# Altium integrated library Altium_WCAP-CSGP (rev22a).IntLib: 953 symbols (part 9 of 17)
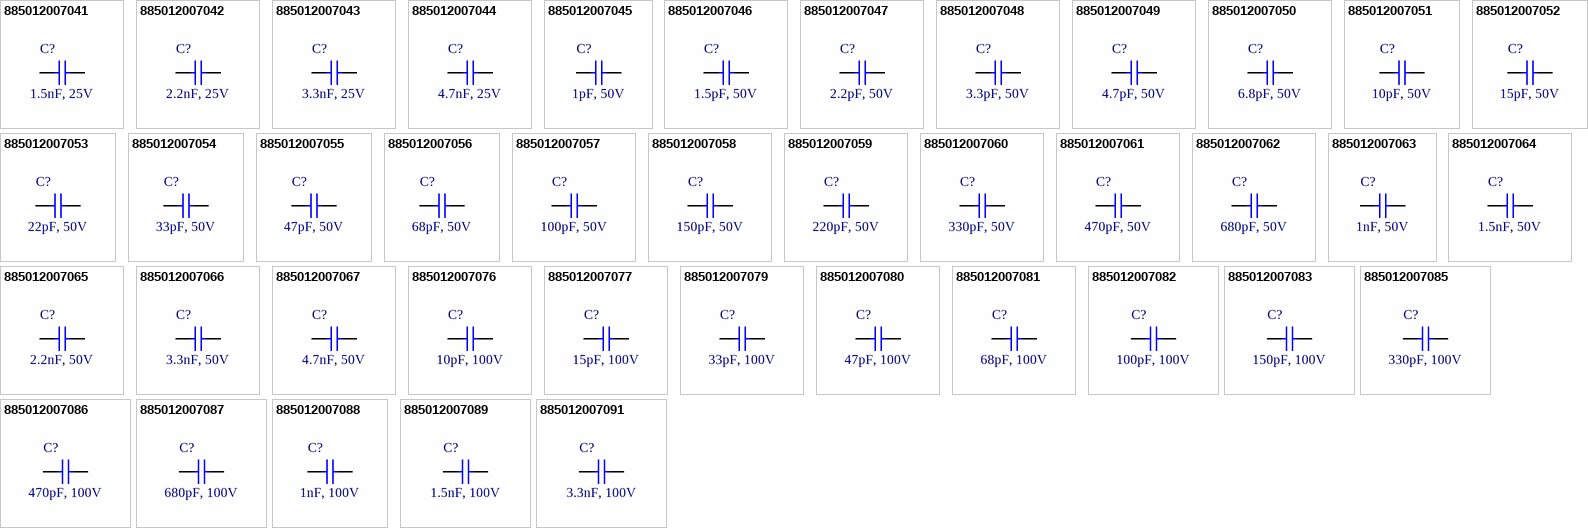
[diagram p35: symbols 885012007041 to 885012007091]

## 885012007088
designator C?, comment 1nF, 100V
WCAP-CSGP Multilayer Ceramic Chip Capacitor, General Purpose, size 0805, NP0, 1nF, 100V; Manufacturer: Wurth Elektronik; Manufacturer Part Number: 885012007088; Capacitance Tolerance: +/-5%; Isolation Resistance: 10GOhm; Q-Factor: 1000; Technical Reference: NP00805102J100DFCT10000; Capacitance: 1nF; Ceramic Type: NP0; ComponentLink1Description: Manufacturer Link; ComponentLink1URL: http://www.we-online.de; ComponentLink2Description: Datasheet; ComponentLink2URL: https://www.we-online.com/catalog/datasheet/885012007088.pdf; Height: 0.8mm; Length: 2mm; Mounting Technology: SMT; Operating Temperature max.: 125C; Operating Temperature min.: -55C; Packaging: Tape and Reel; Rated Voltage: 100V; Size: 0805; Width: 1.25mm
footprint WCAP-CSGP_0805_L2W1.25H0.8_Wave
footprint WCAP-CSGP_0805_L2W1.25H0.8_Reflow
pins: 1, 2

## 885012007089
designator C?, comment 1.5nF, 100V
WCAP-CSGP Multilayer Ceramic Chip Capacitor, General Purpose, size 0805, NP0, 1.5nF, 100V; Manufacturer: Wurth Elektronik; Manufacturer Part Number: 885012007089; Capacitance Tolerance: +/-5%; Isolation Resistance: 10GOhm; Q-Factor: 1000; Technical Reference: NP00805152J100DFCT10000; Capacitance: 1.5nF; Ceramic Type: NP0; ComponentLink1Description: Manufacturer Link; ComponentLink1URL: http://www.we-online.de; ComponentLink2Description: Datasheet; ComponentLink2URL: https://www.we-online.com/catalog/datasheet/885012007089.pdf; Height: 0.8mm; Length: 2mm; Mounting Technology: SMT; Operating Temperature max.: 125C; Operating Temperature min.: -55C; Packaging: Tape and Reel; Rated Voltage: 100V; Size: 0805; Width: 1.25mm
footprint WCAP-CSGP_0805_L2W1.25H0.8_Wave
footprint WCAP-CSGP_0805_L2W1.25H0.8_Reflow
pins: 1, 2

## 885012007091
designator C?, comment 3.3nF, 100V
WCAP-CSGP Multilayer Ceramic Chip Capacitor, General Purpose, size 0805, NP0, 3.3nF, 100V; Manufacturer: Wurth Elektronik; Manufacturer Part Number: 885012007091; Capacitance Tolerance: +/-5%; Isolation Resistance: 10GOhm; Q-Factor: 1000; Technical Reference: NP00805332J100DFCT10000; Capacitance: 3.3nF; Ceramic Type: NP0; ComponentLink1Description: Manufacturer Link; ComponentLink1URL: http://www.we-online.de; ComponentLink2Description: Datasheet; ComponentLink2URL: https://www.we-online.com/catalog/datasheet/885012007091.pdf; Height: 1.25mm; Length: 2mm; Mounting Technology: SMT; Operating Temperature max.: 125C; Operating Temperature min.: -55C; Packaging: Tape and Reel; Rated Voltage: 100V; Size: 0805; Width: 1.25mm
footprint WCAP-CSGP_0805_L2W1.25H1.25
pins: 1, 2

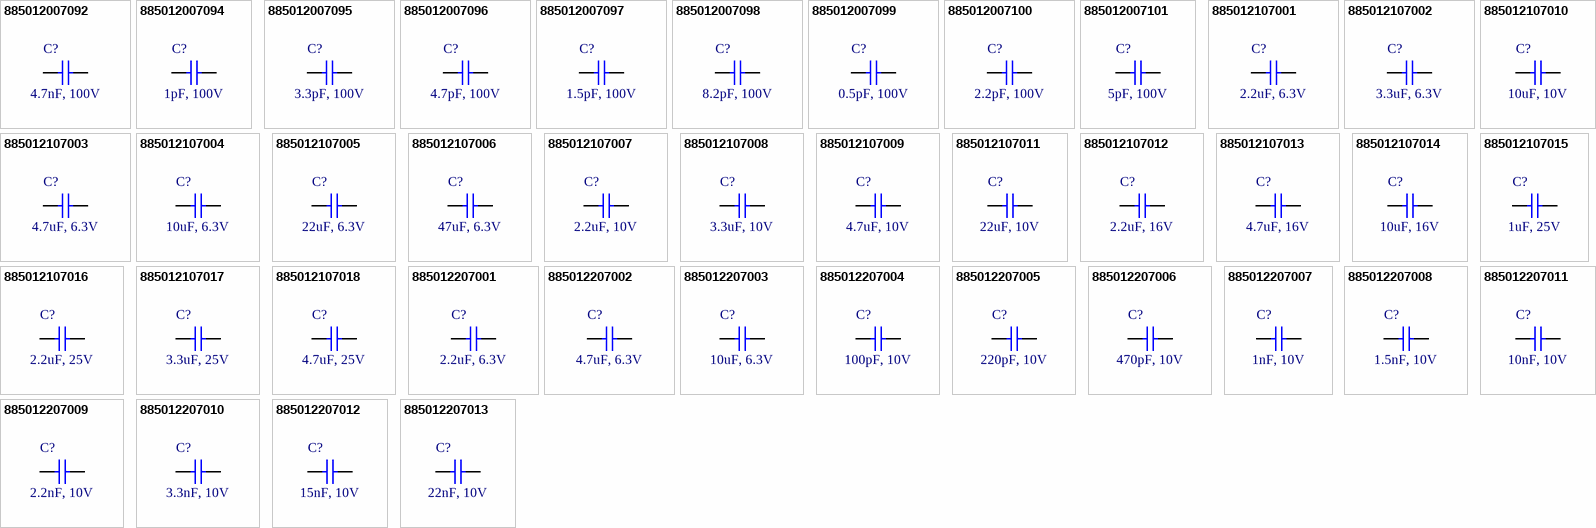
[diagram p13: symbols 885012007092 to 885012207013]

## 885012007092
designator C?, comment 4.7nF, 100V
WCAP-CSGP Multilayer Ceramic Chip Capacitor, General Purpose, size 0805, NP0, 4.7nF, 100V; Manufacturer: Wurth Elektronik; Manufacturer Part Number: 885012007092; Capacitance Tolerance: +/-5%; Isolation Resistance: 10GOhm; Q-Factor: 1000; Technical Reference: NP00805472J100DFCT10000; Capacitance: 4.7nF; Ceramic Type: NP0; ComponentLink1Description: Manufacturer Link; ComponentLink1URL: http://www.we-online.de; ComponentLink2Description: Datasheet; ComponentLink2URL: https://www.we-online.com/catalog/datasheet/885012007092.pdf; Height: 1.25mm; Length: 2mm; Mounting Technology: SMT; Operating Temperature max.: 125C; Operating Temperature min.: -55C; Packaging: Tape and Reel; Rated Voltage: 100V; Size: 0805; Width: 1.25mm
footprint WCAP-CSGP_0805_L2W1.25H1.25
pins: 1, 2

## 885012007094
designator C?, comment 1pF, 100V
WCAP-CSGP Multilayer Ceramic Chip Capacitor, General Purpose, size 0805, NP0, 1pF, 100V; Manufacturer: Wurth Elektronik; Manufacturer Part Number: 885012007094; Capacitance Tolerance: +/-0.25pF; Isolation Resistance: 10GOhm; Q-Factor: 420; Technical Reference: NP008051R0C100DFCT10000; Capacitance: 1pF; Ceramic Type: NP0; ComponentLink1Description: Manufacturer Link; ComponentLink1URL: http://www.we-online.de; ComponentLink2Description: Datasheet; ComponentLink2URL: https://www.we-online.com/catalog/datasheet/885012007094.pdf; Height: 0.6mm; Length: 2mm; Mounting Technology: SMT; Operating Temperature max.: 125C; Operating Temperature min.: -55C; Packaging: Tape and Reel; Rated Voltage: 100V; Size: 0805; Width: 1.25mm
footprint WCAP-CSGP_0805_L2W1.25H0.6_Wave
footprint WCAP-CSGP_0805_L2W1.25H0.6_Reflow
pins: 1, 2

## 885012007095
designator C?, comment 3.3pF, 100V
WCAP-CSGP Multilayer Ceramic Chip Capacitor, General Purpose, size 0805, NP0, 3.3pF, 100V; Manufacturer: Wurth Elektronik; Manufacturer Part Number: 885012007095; Capacitance Tolerance: +/-0.25pF; Isolation Resistance: 10GOhm; Q-Factor: 466; Technical Reference: NP008053R3C100DFCT10000; Capacitance: 3.3pF; Ceramic Type: NP0; ComponentLink1Description: Manufacturer Link; ComponentLink1URL: http://www.we-online.de; ComponentLink2Description: Datasheet; ComponentLink2URL: https://www.we-online.com/catalog/datasheet/885012007095.pdf; Height: 0.6mm; Length: 2mm; Mounting Technology: SMT; Operating Temperature max.: 125C; Operating Temperature min.: -55C; Packaging: Tape and Reel; Rated Voltage: 100V; Size: 0805; Width: 1.25mm
footprint WCAP-CSGP_0805_L2W1.25H0.6_Wave
footprint WCAP-CSGP_0805_L2W1.25H0.6_Reflow
pins: 1, 2

## 885012007096
designator C?, comment 4.7pF, 100V
WCAP-CSGP Multilayer Ceramic Chip Capacitor, General Purpose, size 0805, NP0, 4.7pF, 100V; Manufacturer: Wurth Elektronik; Manufacturer Part Number: 885012007096; Capacitance Tolerance: +/-0.25pF; Isolation Resistance: 10GOhm; Q-Factor: 494; Technical Reference: NP008054R7C100DFCT10000; Capacitance: 4.7pF; Ceramic Type: NP0; ComponentLink1Description: Manufacturer Link; ComponentLink1URL: http://www.we-online.de; ComponentLink2Description: Datasheet; ComponentLink2URL: https://www.we-online.com/catalog/datasheet/885012007096.pdf; Height: 0.6mm; Length: 2mm; Mounting Technology: SMT; Operating Temperature max.: 125C; Operating Temperature min.: -55C; Packaging: Tape and Reel; Rated Voltage: 100V; Size: 0805; Width: 1.25mm
footprint WCAP-CSGP_0805_L2W1.25H0.6_Wave
footprint WCAP-CSGP_0805_L2W1.25H0.6_Reflow
pins: 1, 2

## 885012007097
designator C?, comment 1.5pF, 100V
WCAP-CSGP Multilayer Ceramic Chip Capacitor, General Purpose, size 0805, NP0, 1.5pF, 100V; Manufacturer: Wurth Elektronik; Manufacturer Part Number: 885012007097; Capacitance Tolerance: +/-0.25pF; Isolation Resistance: 10GOhm; Q-Factor: 430; Technical Reference: NP008051R5C100DFCT10000; Capacitance: 1.5pF; Ceramic Type: NP0; ComponentLink1Description: Manufacturer Link; ComponentLink1URL: http://www.we-online.de; ComponentLink2Description: Datasheet; ComponentLink2URL: https://www.we-online.com/catalog/datasheet/885012007097.pdf; Height: 0.6mm; Length: 2mm; Mounting Technology: SMT; Operating Temperature max.: 125C; Operating Temperature min.: -55C; Packaging: Tape and Reel; Rated Voltage: 100V; Size: 0805; Width: 1.25mm
footprint WCAP-CSGP_0805_L2W1.25H0.6_Wave
footprint WCAP-CSGP_0805_L2W1.25H0.6_Reflow
pins: 1, 2

## 885012007098
designator C?, comment 8.2pF, 100V
WCAP-CSGP Multilayer Ceramic Chip Capacitor, General Purpose, size 0805, NP0, 8.2pF, 100V; Manufacturer: Wurth Elektronik; Manufacturer Part Number: 885012007098; Capacitance Tolerance: +/-0.5pF; Isolation Resistance: 10GOhm; Q-Factor: 564; Technical Reference: NP008058R2D100DFCT10000; Capacitance: 8.2pF; Ceramic Type: NP0; ComponentLink1Description: Manufacturer Link; ComponentLink1URL: http://www.we-online.de; ComponentLink2Description: Datasheet; ComponentLink2URL: https://www.we-online.com/catalog/datasheet/885012007098.pdf; Height: 0.6mm; Length: 2mm; Mounting Technology: SMT; Operating Temperature max.: 125C; Operating Temperature min.: -55C; Packaging: Tape and Reel; Rated Voltage: 100V; Size: 0805; Width: 1.25mm
footprint WCAP-CSGP_0805_L2W1.25H0.6_Wave
footprint WCAP-CSGP_0805_L2W1.25H0.6_Reflow
pins: 1, 2

## 885012007099
designator C?, comment 0.5pF, 100V
WCAP-CSGP Multilayer Ceramic Chip Capacitor, General Purpose, size 0805, NP0, 0.5pF, 100V; Manufacturer: Wurth Elektronik; Manufacturer Part Number: 885012007099; Capacitance Tolerance: +/-0.25pF; Isolation Resistance: 10GOhm; Q-Factor: 410; Technical Reference: NP00805R50C100DFCT10000; Capacitance: 0.5pF; Ceramic Type: NP0; ComponentLink1Description: Manufacturer Link; ComponentLink1URL: http://www.we-online.de; ComponentLink2Description: Datasheet; ComponentLink2URL: https://www.we-online.com/catalog/datasheet/885012007099.pdf; Height: 0.6mm; Length: 2mm; Mounting Technology: SMT; Operating Temperature max.: 125C; Operating Temperature min.: -55C; Packaging: Tape and Reel; Rated Voltage: 100V; Size: 0805; Width: 1.25mm
footprint WCAP-CSGP_0805_L2W1.25H0.6_Wave
footprint WCAP-CSGP_0805_L2W1.25H0.6_Reflow
pins: 1, 2

## 885012007100
designator C?, comment 2.2pF, 100V
WCAP-CSGP Multilayer Ceramic Chip Capacitor, General Purpose, size 0805, NP0, 2.2pF, 100V; Manufacturer: Wurth Elektronik; Manufacturer Part Number: 885012007100; Capacitance Tolerance: +/-0.25pF; Isolation Resistance: 10GOhm; Q-Factor: 444; Technical Reference: NP008052R2C100DFCT10000; Capacitance: 2.2pF; Ceramic Type: NP0; ComponentLink1Description: Manufacturer Link; ComponentLink1URL: http://www.we-online.de; ComponentLink2Description: Datasheet; ComponentLink2URL: https://www.we-online.com/catalog/datasheet/885012007100.pdf; Height: 0.6mm; Length: 2mm; Mounting Technology: SMT; Operating Temperature max.: 125C; Operating Temperature min.: -55C; Packaging: Tape and Reel; Rated Voltage: 100V; Size: 0805; Width: 1.25mm
footprint WCAP-CSGP_0805_L2W1.25H0.6_Wave
footprint WCAP-CSGP_0805_L2W1.25H0.6_Reflow
pins: 1, 2

## 885012007101
designator C?, comment 5pF, 100V
WCAP-CSGP Multilayer Ceramic Chip Capacitor, General Purpose, size 0805, NP0, 5pF, 100V; Manufacturer: Wurth Elektronik; Manufacturer Part Number: 885012007101; Capacitance Tolerance: +/-0.25pF; Isolation Resistance: 10GOhm; Q-Factor: 500; Technical Reference: NP008055R0C100DFCT10000; Capacitance: 5pF; Ceramic Type: NP0; ComponentLink1Description: Manufacturer Link; ComponentLink1URL: http://www.we-online.de; ComponentLink2Description: Datasheet; ComponentLink2URL: https://www.we-online.com/catalog/datasheet/885012007101.pdf; Height: 0.6mm; Length: 2mm; Mounting Technology: SMT; Operating Temperature max.: 125C; Operating Temperature min.: -55C; Packaging: Tape and Reel; Rated Voltage: 100V; Size: 0805; Width: 1.25mm
footprint WCAP-CSGP_0805_L2W1.25H0.6_Wave
footprint WCAP-CSGP_0805_L2W1.25H0.6_Reflow
pins: 1, 2

## 885012107001
designator C?, comment 2.2uF, 6.3V
WCAP-CSGP Multilayer Ceramic Chip Capacitor, General Purpose, size 0805, X5R, 2.2uF, 6.3V; Manufacturer: Wurth Elektronik; Manufacturer Part Number: 885012107001; Capacitance Tolerance: +/-20%; Dissipation Factor: 10%; Isolation Resistance: 0.05GOhm; Technical Reference: X5R0805225M6R3DFCT10000; Capacitance: 2.2uF; Ceramic Type: X5R; ComponentLink1Description: Manufacturer Link; ComponentLink1URL: http://www.we-online.de; ComponentLink2Description: Datasheet; ComponentLink2URL: https://www.we-online.com/catalog/datasheet/885012107001.pdf; Height: 1.25mm; Length: 2mm; Mounting Technology: SMT; Operating Temperature max.: 85C; Operating Temperature min.: -55C; Packaging: Tape and Reel; Rated Voltage: 6.3V; Size: 0805; Width: 1.25mm
footprint WCAP-CSGP_0805_L2W1.25H1.25
pins: 1, 2

## 885012107002
designator C?, comment 3.3uF, 6.3V
WCAP-CSGP Multilayer Ceramic Chip Capacitor, General Purpose, size 0805, X5R, 3.3uF, 6.3V; Manufacturer: Wurth Elektronik; Manufacturer Part Number: 885012107002; Capacitance Tolerance: +/-20%; Dissipation Factor: 10%; Isolation Resistance: 0.03GOhm; Technical Reference: X5R0805335M6R3DFCT10000; Capacitance: 3.3uF; Ceramic Type: X5R; ComponentLink1Description: Manufacturer Link; ComponentLink1URL: http://www.we-online.de; ComponentLink2Description: Datasheet; ComponentLink2URL: https://www.we-online.com/catalog/datasheet/885012107002.pdf; Height: 1.25mm; Length: 2mm; Mounting Technology: SMT; Operating Temperature max.: 85C; Operating Temperature min.: -55C; Packaging: Tape and Reel; Rated Voltage: 6.3V; Size: 0805; Width: 1.25mm
footprint WCAP-CSGP_0805_L2W1.25H1.25
pins: 1, 2

## 885012107003
designator C?, comment 4.7uF, 6.3V
WCAP-CSGP Multilayer Ceramic Chip Capacitor, General Purpose, size 0805, X5R, 4.7uF, 6.3V; Manufacturer: Wurth Elektronik; Manufacturer Part Number: 885012107003; Capacitance Tolerance: +/-20%; Dissipation Factor: 15%; Isolation Resistance: 0.02GOhm; Technical Reference: X5R0805475M6R3DFCT10000; Capacitance: 4.7uF; Ceramic Type: X5R; ComponentLink1Description: Manufacturer Link; ComponentLink1URL: http://www.we-online.de; ComponentLink2Description: Datasheet; ComponentLink2URL: https://www.we-online.com/catalog/datasheet/885012107003.pdf; Height: 1.25mm; Length: 2mm; Mounting Technology: SMT; Operating Temperature max.: 85C; Operating Temperature min.: -55C; Packaging: Tape and Reel; Rated Voltage: 6.3V; Size: 0805; Width: 1.25mm
footprint WCAP-CSGP_0805_L2W1.25H1.25
pins: 1, 2

## 885012107004
designator C?, comment 10uF, 6.3V
WCAP-CSGP Multilayer Ceramic Chip Capacitor, General Purpose, size 0805, X5R, 10uF, 6.3V; Manufacturer: Wurth Elektronik; Manufacturer Part Number: 885012107004; Capacitance Tolerance: +/-20%; Dissipation Factor: 15%; Isolation Resistance: 0.01GOhm; Technical Reference: X5R0805106M6R3DFCT10000; Capacitance: 10uF; Ceramic Type: X5R; ComponentLink1Description: Manufacturer Link; ComponentLink1URL: http://www.we-online.de; ComponentLink2Description: Datasheet; ComponentLink2URL: https://www.we-online.com/catalog/datasheet/885012107004.pdf; Height: 1.25mm; Length: 2mm; Mounting Technology: SMT; Operating Temperature max.: 85C; Operating Temperature min.: -55C; Packaging: Tape and Reel; Rated Voltage: 6.3V; Size: 0805; Width: 1.25mm
footprint WCAP-CSGP_0805_L2W1.25H1.25
pins: 1, 2

## 885012107005
designator C?, comment 22uF, 6.3V
WCAP-CSGP Multilayer Ceramic Chip Capacitor, General Purpose, size 0805, X5R, 22uF, 6.3V; Manufacturer: Wurth Elektronik; Manufacturer Part Number: 885012107005; Capacitance Tolerance: +/-20%; Dissipation Factor: 10%; Isolation Resistance: 0.005GOhm; Technical Reference: X5R0805226M6R3DFCT10000; Capacitance: 22uF; Ceramic Type: X5R; ComponentLink1Description: Manufacturer Link; ComponentLink1URL: http://www.we-online.de; ComponentLink2Description: Datasheet; ComponentLink2URL: https://www.we-online.com/catalog/datasheet/885012107005.pdf; Height: 1.25mm; Length: 2mm; Mounting Technology: SMT; Operating Temperature max.: 85C; Operating Temperature min.: -55C; Packaging: Tape and Reel; Rated Voltage: 6.3V; Size: 0805; Width: 1.25mm
footprint WCAP-CSGP_0805_L2W1.25H1.25
pins: 1, 2

## 885012107006
designator C?, comment 47uF, 6.3V
WCAP-CSGP Multilayer Ceramic Chip Capacitor, General Purpose, size 0805, X5R, 47uF, 6.3V; Manufacturer: Wurth Elektronik; Manufacturer Part Number: 885012107006; Capacitance Tolerance: +/-20%; Dissipation Factor: 10%; Isolation Resistance: 0.002GOhm; Technical Reference: X5R0805476M6R3DFCT10000; Capacitance: 47uF; Ceramic Type: X5R; ComponentLink1Description: Manufacturer Link; ComponentLink1URL: http://www.we-online.de; ComponentLink2Description: Datasheet; ComponentLink2URL: https://www.we-online.com/catalog/datasheet/885012107006.pdf; Height: 1.25mm; Length: 2mm; Mounting Technology: SMT; Operating Temperature max.: 85C; Operating Temperature min.: -55C; Packaging: Tape and Reel; Rated Voltage: 6.3V; Size: 0805; Width: 1.25mm
footprint WCAP-CSGP_0805_L2W1.25H1.25
pins: 1, 2

## 885012107007
designator C?, comment 2.2uF, 10V
WCAP-CSGP Multilayer Ceramic Chip Capacitor, General Purpose, size 0805, X5R, 2.2uF, 10V; Manufacturer: Wurth Elektronik; Manufacturer Part Number: 885012107007; Capacitance Tolerance: +/-20%; Dissipation Factor: 10%; Isolation Resistance: 0.05GOhm; Technical Reference: X5R0805225M010DFCT10000; Capacitance: 2.2uF; Ceramic Type: X5R; ComponentLink1Description: Manufacturer Link; ComponentLink1URL: http://www.we-online.de; ComponentLink2Description: Datasheet; ComponentLink2URL: https://www.we-online.com/catalog/datasheet/885012107007.pdf; Height: 1.25mm; Length: 2mm; Mounting Technology: SMT; Operating Temperature max.: 85C; Operating Temperature min.: -55C; Packaging: Tape and Reel; Rated Voltage: 10V; Size: 0805; Width: 1.25mm
footprint WCAP-CSGP_0805_L2W1.25H1.25
pins: 1, 2

## 885012107008
designator C?, comment 3.3uF, 10V
WCAP-CSGP Multilayer Ceramic Chip Capacitor, General Purpose, size 0805, X5R, 3.3uF, 10V; Manufacturer: Wurth Elektronik; Manufacturer Part Number: 885012107008; Capacitance Tolerance: +/-20%; Dissipation Factor: 10%; Isolation Resistance: 0.03GOhm; Technical Reference: X5R0805335M010DFCT10000; Capacitance: 3.3uF; Ceramic Type: X5R; ComponentLink1Description: Manufacturer Link; ComponentLink1URL: http://www.we-online.de; ComponentLink2Description: Datasheet; ComponentLink2URL: https://www.we-online.com/catalog/datasheet/885012107008.pdf; Height: 1.25mm; Length: 2mm; Mounting Technology: SMT; Operating Temperature max.: 85C; Operating Temperature min.: -55C; Packaging: Tape and Reel; Rated Voltage: 10V; Size: 0805; Width: 1.25mm
footprint WCAP-CSGP_0805_L2W1.25H1.25
pins: 1, 2

## 885012107009
designator C?, comment 4.7uF, 10V
WCAP-CSGP Multilayer Ceramic Chip Capacitor, General Purpose, size 0805, X5R, 4.7uF, 10V; Manufacturer: Wurth Elektronik; Manufacturer Part Number: 885012107009; Capacitance Tolerance: +/-20%; Dissipation Factor: 10%; Isolation Resistance: 0.02GOhm; Technical Reference: X5R0805475M010DFCT10000; Capacitance: 4.7uF; Ceramic Type: X5R; ComponentLink1Description: Manufacturer Link; ComponentLink1URL: http://www.we-online.de; ComponentLink2Description: Datasheet; ComponentLink2URL: https://www.we-online.com/catalog/datasheet/885012107009.pdf; Height: 1.25mm; Length: 2mm; Mounting Technology: SMT; Operating Temperature max.: 85C; Operating Temperature min.: -55C; Packaging: Tape and Reel; Rated Voltage: 10V; Size: 0805; Width: 1.25mm
footprint WCAP-CSGP_0805_L2W1.25H1.25
pins: 1, 2

## 885012107010
designator C?, comment 10uF, 10V
WCAP-CSGP Multilayer Ceramic Chip Capacitor, General Purpose, size 0805, X5R, 10uF, 10V; Manufacturer: Wurth Elektronik; Manufacturer Part Number: 885012107010; Capacitance Tolerance: +/-20%; Dissipation Factor: 10%; Isolation Resistance: 0.01GOhm; Technical Reference: X5R0805106M010DFCT10000; Capacitance: 10uF; Ceramic Type: X5R; ComponentLink1Description: Manufacturer Link; ComponentLink1URL: http://www.we-online.de; ComponentLink2Description: Datasheet; ComponentLink2URL: https://www.we-online.com/catalog/datasheet/885012107010.pdf; Height: 1.25mm; Length: 2mm; Mounting Technology: SMT; Operating Temperature max.: 85C; Operating Temperature min.: -55C; Packaging: Tape and Reel; Rated Voltage: 10V; Size: 0805; Width: 1.25mm
footprint WCAP-CSGP_0805_L2W1.25H1.25
pins: 1, 2

## 885012107011
designator C?, comment 22uF, 10V
WCAP-CSGP Multilayer Ceramic Chip Capacitor, General Purpose, size 0805, X5R, 22uF, 10V; Manufacturer: Wurth Elektronik; Manufacturer Part Number: 885012107011; Capacitance Tolerance: +/-20%; Dissipation Factor: 10%; Isolation Resistance: 0.005GOhm; Technical Reference: X5R0805226M010DFCT10000; Capacitance: 22uF; Ceramic Type: X5R; ComponentLink1Description: Manufacturer Link; ComponentLink1URL: http://www.we-online.de; ComponentLink2Description: Datasheet; ComponentLink2URL: https://www.we-online.com/catalog/datasheet/885012107011.pdf; Height: 1.25mm; Length: 2mm; Mounting Technology: SMT; Operating Temperature max.: 85C; Operating Temperature min.: -55C; Packaging: Tape and Reel; Rated Voltage: 10V; Size: 0805; Width: 1.25mm
footprint WCAP-CSGP_0805_L2W1.25H1.25
pins: 1, 2

## 885012107012
designator C?, comment 2.2uF, 16V
WCAP-CSGP Multilayer Ceramic Chip Capacitor, General Purpose, size 0805, X5R, 2.2uF, 16V; Manufacturer: Wurth Elektronik; Manufacturer Part Number: 885012107012; Capacitance Tolerance: +/-20%; Dissipation Factor: 10%; Isolation Resistance: 0.05GOhm; Technical Reference: X5R0805225M016DFCT10000; Capacitance: 2.2uF; Ceramic Type: X5R; ComponentLink1Description: Manufacturer Link; ComponentLink1URL: http://www.we-online.de; ComponentLink2Description: Datasheet; ComponentLink2URL: https://www.we-online.com/catalog/datasheet/885012107012.pdf; Height: 1.25mm; Length: 2mm; Mounting Technology: SMT; Operating Temperature max.: 85C; Operating Temperature min.: -55C; Packaging: Tape and Reel; Rated Voltage: 16V; Size: 0805; Width: 1.25mm
footprint WCAP-CSGP_0805_L2W1.25H1.25
pins: 1, 2

## 885012107013
designator C?, comment 4.7uF, 16V
WCAP-CSGP Multilayer Ceramic Chip Capacitor, General Purpose, size 0805, X5R, 4.7uF, 16V; Manufacturer: Wurth Elektronik; Manufacturer Part Number: 885012107013; Capacitance Tolerance: +/-20%; Dissipation Factor: 10%; Isolation Resistance: 0.02GOhm; Technical Reference: X5R0805475M016DFCT10000; Capacitance: 4.7uF; Ceramic Type: X5R; ComponentLink1Description: Manufacturer Link; ComponentLink1URL: http://www.we-online.de; ComponentLink2Description: Datasheet; ComponentLink2URL: https://www.we-online.com/catalog/datasheet/885012107013.pdf; Height: 1.25mm; Length: 2mm; Mounting Technology: SMT; Operating Temperature max.: 85C; Operating Temperature min.: -55C; Packaging: Tape and Reel; Rated Voltage: 16V; Size: 0805; Width: 1.25mm
footprint WCAP-CSGP_0805_L2W1.25H1.25
pins: 1, 2

## 885012107014
designator C?, comment 10uF, 16V
WCAP-CSGP Multilayer Ceramic Chip Capacitor, General Purpose, size 0805, X5R, 10uF, 16V; Manufacturer: Wurth Elektronik; Manufacturer Part Number: 885012107014; Capacitance Tolerance: +/-20%; Dissipation Factor: 10%; Isolation Resistance: 0.01GOhm; Technical Reference: X5R0805106M016DFCT10000; Capacitance: 10uF; Ceramic Type: X5R; ComponentLink1Description: Manufacturer Link; ComponentLink1URL: http://www.we-online.de; ComponentLink2Description: Datasheet; ComponentLink2URL: https://www.we-online.com/catalog/datasheet/885012107014.pdf; Height: 1.25mm; Length: 2mm; Mounting Technology: SMT; Operating Temperature max.: 85C; Operating Temperature min.: -55C; Packaging: Tape and Reel; Rated Voltage: 16V; Size: 0805; Width: 1.25mm
footprint WCAP-CSGP_0805_L2W1.25H1.25
pins: 1, 2

## 885012107015
designator C?, comment 1uF, 25V
WCAP-CSGP Multilayer Ceramic Chip Capacitor, General Purpose, size 0805, X5R, 1uF, 25V; Manufacturer: Wurth Elektronik; Manufacturer Part Number: 885012107015; Capacitance Tolerance: +/-20%; Dissipation Factor: 5%; Isolation Resistance: 0.5GOhm; Technical Reference: X5R0805105M025DFCT10000; Capacitance: 1uF; Ceramic Type: X5R; ComponentLink1Description: Manufacturer Link; ComponentLink1URL: http://www.we-online.de; ComponentLink2Description: Datasheet; ComponentLink2URL: https://www.we-online.com/catalog/datasheet/885012107015.pdf; Height: 1.25mm; Length: 2mm; Mounting Technology: SMT; Operating Temperature max.: 85C; Operating Temperature min.: -55C; Packaging: Tape and Reel; Rated Voltage: 25V; Size: 0805; Width: 1.25mm
footprint WCAP-CSGP_0805_L2W1.25H1.25
pins: 1, 2

## 885012107016
designator C?, comment 2.2uF, 25V
WCAP-CSGP Multilayer Ceramic Chip Capacitor, General Purpose, size 0805, X5R, 2.2uF, 25V; Manufacturer: Wurth Elektronik; Manufacturer Part Number: 885012107016; Capacitance Tolerance: +/-20%; Dissipation Factor: 10%; Isolation Resistance: 0.05GOhm; Technical Reference: X5R0805225M025DFCT10000; Capacitance: 2.2uF; Ceramic Type: X5R; ComponentLink1Description: Manufacturer Link; ComponentLink1URL: http://www.we-online.de; ComponentLink2Description: Datasheet; ComponentLink2URL: https://www.we-online.com/catalog/datasheet/885012107016.pdf; Height: 1.25mm; Length: 2mm; Mounting Technology: SMT; Operating Temperature max.: 85C; Operating Temperature min.: -55C; Packaging: Tape and Reel; Rated Voltage: 25V; Size: 0805; Width: 1.25mm
footprint WCAP-CSGP_0805_L2W1.25H1.25
pins: 1, 2

## 885012107017
designator C?, comment 3.3uF, 25V
WCAP-CSGP Multilayer Ceramic Chip Capacitor, General Purpose, size 0805, X5R, 3.3uF, 25V; Manufacturer: Wurth Elektronik; Manufacturer Part Number: 885012107017; Capacitance Tolerance: +/-20%; Dissipation Factor: 10%; Isolation Resistance: 0.03GOhm; Technical Reference: X5R0805335M025DFCT10000; Capacitance: 3.3uF; Ceramic Type: X5R; ComponentLink1Description: Manufacturer Link; ComponentLink1URL: http://www.we-online.de; ComponentLink2Description: Datasheet; ComponentLink2URL: https://www.we-online.com/catalog/datasheet/885012107017.pdf; Height: 1.25mm; Length: 2mm; Mounting Technology: SMT; Operating Temperature max.: 85C; Operating Temperature min.: -55C; Packaging: Tape and Reel; Rated Voltage: 25V; Size: 0805; Width: 1.25mm
footprint WCAP-CSGP_0805_L2W1.25H1.25
pins: 1, 2

## 885012107018
designator C?, comment 4.7uF, 25V
WCAP-CSGP Multilayer Ceramic Chip Capacitor, General Purpose, size 0805, X5R, 4.7uF, 25V; Manufacturer: Wurth Elektronik; Manufacturer Part Number: 885012107018; Capacitance Tolerance: +/-20%; Dissipation Factor: 10%; Isolation Resistance: 0.02GOhm; Technical Reference: X5R0805475M025DFCT10000; Capacitance: 4.7uF; Ceramic Type: X5R; ComponentLink1Description: Manufacturer Link; ComponentLink1URL: http://www.we-online.de; ComponentLink2Description: Datasheet; ComponentLink2URL: https://www.we-online.com/catalog/datasheet/885012107018.pdf; Height: 1.25mm; Length: 2mm; Mounting Technology: SMT; Operating Temperature max.: 85C; Operating Temperature min.: -55C; Packaging: Tape and Reel; Rated Voltage: 25V; Size: 0805; Width: 1.25mm
footprint WCAP-CSGP_0805_L2W1.25H1.25
pins: 1, 2

## 885012207001
designator C?, comment 2.2uF, 6.3V
WCAP-CSGP Multilayer Ceramic Chip Capacitor, General Purpose, size 0805, X7R, 2.2uF, 6.3V; Manufacturer: Wurth Elektronik; Manufacturer Part Number: 885012207001; Capacitance Tolerance: +/-10%; Dissipation Factor: 10%; Isolation Resistance: 0.05GOhm; Technical Reference: X7R0805225K6R3DFCT10000; Capacitance: 2.2uF; Ceramic Type: X7R; ComponentLink1Description: Manufacturer Link; ComponentLink1URL: http://www.we-online.de; ComponentLink2Description: Datasheet; ComponentLink2URL: https://www.we-online.com/catalog/datasheet/885012207001.pdf; Height: 1.25mm; Length: 2mm; Mounting Technology: SMT; Operating Temperature max.: 125C; Operating Temperature min.: -55C; Packaging: Tape and Reel; Rated Voltage: 6.3V; Size: 0805; Width: 1.25mm
footprint WCAP-CSGP_0805_L2W1.25H1.25
pins: 1, 2

## 885012207002
designator C?, comment 4.7uF, 6.3V
WCAP-CSGP Multilayer Ceramic Chip Capacitor, General Purpose, size 0805, X7R, 4.7uF, 6.3V; Manufacturer: Wurth Elektronik; Manufacturer Part Number: 885012207002; Capacitance Tolerance: +/-10%; Dissipation Factor: 10%; Isolation Resistance: 0.02GOhm; Technical Reference: X7R0805475K6R3DFCT10000; Capacitance: 4.7uF; Ceramic Type: X7R; ComponentLink1Description: Manufacturer Link; ComponentLink1URL: http://www.we-online.de; ComponentLink2Description: Datasheet; ComponentLink2URL: https://www.we-online.com/catalog/datasheet/885012207002.pdf; Height: 1.25mm; Length: 2mm; Mounting Technology: SMT; Operating Temperature max.: 125C; Operating Temperature min.: -55C; Packaging: Tape and Reel; Rated Voltage: 6.3V; Size: 0805; Width: 1.25mm
footprint WCAP-CSGP_0805_L2W1.25H1.25
pins: 1, 2

## 885012207003
designator C?, comment 10uF, 6.3V
WCAP-CSGP Multilayer Ceramic Chip Capacitor, General Purpose, size 0805, X7R, 10uF, 6.3V; Manufacturer: Wurth Elektronik; Manufacturer Part Number: 885012207003; Capacitance Tolerance: +/-10%; Dissipation Factor: 10%; Isolation Resistance: 0.01GOhm; Technical Reference: X7R0805106K6R3DFCT10000; Capacitance: 10uF; Ceramic Type: X7R; ComponentLink1Description: Manufacturer Link; ComponentLink1URL: http://www.we-online.de; ComponentLink2Description: Datasheet; ComponentLink2URL: https://www.we-online.com/catalog/datasheet/885012207003.pdf; Height: 1.25mm; Length: 2mm; Mounting Technology: SMT; Operating Temperature max.: 125C; Operating Temperature min.: -55C; Packaging: Tape and Reel; Rated Voltage: 6.3V; Size: 0805; Width: 1.25mm
footprint WCAP-CSGP_0805_L2W1.25H1.25
pins: 1, 2

## 885012207004
designator C?, comment 100pF, 10V
WCAP-CSGP Multilayer Ceramic Chip Capacitor, General Purpose, size 0805, X7R, 100pF, 10V; Manufacturer: Wurth Elektronik; Manufacturer Part Number: 885012207004; Capacitance Tolerance: +/-10%; Dissipation Factor: 5%; Isolation Resistance: 10GOhm; Technical Reference: X7R0805101K010DFCT10000; Capacitance: 100pF; Ceramic Type: X7R; ComponentLink1Description: Manufacturer Link; ComponentLink1URL: http://www.we-online.de; ComponentLink2Description: Datasheet; ComponentLink2URL: https://www.we-online.com/catalog/datasheet/885012207004.pdf; Height: 0.8mm; Length: 2mm; Mounting Technology: SMT; Operating Temperature max.: 125C; Operating Temperature min.: -55C; Packaging: Tape and Reel; Rated Voltage: 10V; Size: 0805; Width: 1.25mm
footprint WCAP-CSGP_0805_L2W1.25H0.8_Wave
footprint WCAP-CSGP_0805_L2W1.25H0.8_Reflow
pins: 1, 2

## 885012207005
designator C?, comment 220pF, 10V
WCAP-CSGP Multilayer Ceramic Chip Capacitor, General Purpose, size 0805, X7R, 220pF, 10V; Manufacturer: Wurth Elektronik; Manufacturer Part Number: 885012207005; Capacitance Tolerance: +/-10%; Dissipation Factor: 5%; Isolation Resistance: 10GOhm; Technical Reference: X7R0805221K010DFCT10000; Capacitance: 220pF; Ceramic Type: X7R; ComponentLink1Description: Manufacturer Link; ComponentLink1URL: http://www.we-online.de; ComponentLink2Description: Datasheet; ComponentLink2URL: https://www.we-online.com/catalog/datasheet/885012207005.pdf; Height: 0.8mm; Length: 2mm; Mounting Technology: SMT; Operating Temperature max.: 125C; Operating Temperature min.: -55C; Packaging: Tape and Reel; Rated Voltage: 10V; Size: 0805; Width: 1.25mm
footprint WCAP-CSGP_0805_L2W1.25H0.8_Wave
footprint WCAP-CSGP_0805_L2W1.25H0.8_Reflow
pins: 1, 2

## 885012207006
designator C?, comment 470pF, 10V
WCAP-CSGP Multilayer Ceramic Chip Capacitor, General Purpose, size 0805, X7R, 470pF, 10V; Manufacturer: Wurth Elektronik; Manufacturer Part Number: 885012207006; Capacitance Tolerance: +/-10%; Dissipation Factor: 5%; Isolation Resistance: 10GOhm; Technical Reference: X7R0805471K010DFCT10000; Capacitance: 470pF; Ceramic Type: X7R; ComponentLink1Description: Manufacturer Link; ComponentLink1URL: http://www.we-online.de; ComponentLink2Description: Datasheet; ComponentLink2URL: https://www.we-online.com/catalog/datasheet/885012207006.pdf; Height: 0.8mm; Length: 2mm; Mounting Technology: SMT; Operating Temperature max.: 125C; Operating Temperature min.: -55C; Packaging: Tape and Reel; Rated Voltage: 10V; Size: 0805; Width: 1.25mm
footprint WCAP-CSGP_0805_L2W1.25H0.8_Wave
footprint WCAP-CSGP_0805_L2W1.25H0.8_Reflow
pins: 1, 2

## 885012207007
designator C?, comment 1nF, 10V
WCAP-CSGP Multilayer Ceramic Chip Capacitor, General Purpose, size 0805, X7R, 1nF, 10V; Manufacturer: Wurth Elektronik; Manufacturer Part Number: 885012207007; Capacitance Tolerance: +/-10%; Dissipation Factor: 5%; Isolation Resistance: 10GOhm; Technical Reference: X7R0805102K010DFCT10000; Capacitance: 1nF; Ceramic Type: X7R; ComponentLink1Description: Manufacturer Link; ComponentLink1URL: http://www.we-online.de; ComponentLink2Description: Datasheet; ComponentLink2URL: https://www.we-online.com/catalog/datasheet/885012207007.pdf; Height: 0.8mm; Length: 2mm; Mounting Technology: SMT; Operating Temperature max.: 125C; Operating Temperature min.: -55C; Packaging: Tape and Reel; Rated Voltage: 10V; Size: 0805; Width: 1.25mm
footprint WCAP-CSGP_0805_L2W1.25H0.8_Wave
footprint WCAP-CSGP_0805_L2W1.25H0.8_Reflow
pins: 1, 2

## 885012207008
designator C?, comment 1.5nF, 10V
WCAP-CSGP Multilayer Ceramic Chip Capacitor, General Purpose, size 0805, X7R, 1.5nF, 10V; Manufacturer: Wurth Elektronik; Manufacturer Part Number: 885012207008; Capacitance Tolerance: +/-10%; Dissipation Factor: 5%; Isolation Resistance: 10GOhm; Technical Reference: X7R0805152K010DFCT10000; Capacitance: 1.5nF; Ceramic Type: X7R; ComponentLink1Description: Manufacturer Link; ComponentLink1URL: http://www.we-online.de; ComponentLink2Description: Datasheet; ComponentLink2URL: https://www.we-online.com/catalog/datasheet/885012207008.pdf; Height: 0.8mm; Length: 2mm; Mounting Technology: SMT; Operating Temperature max.: 125C; Operating Temperature min.: -55C; Packaging: Tape and Reel; Rated Voltage: 10V; Size: 0805; Width: 1.25mm
footprint WCAP-CSGP_0805_L2W1.25H0.8_Wave
footprint WCAP-CSGP_0805_L2W1.25H0.8_Reflow
pins: 1, 2

## 885012207009
designator C?, comment 2.2nF, 10V
WCAP-CSGP Multilayer Ceramic Chip Capacitor, General Purpose, size 0805, X7R, 2.2nF, 10V; Manufacturer: Wurth Elektronik; Manufacturer Part Number: 885012207009; Capacitance Tolerance: +/-10%; Dissipation Factor: 5%; Isolation Resistance: 10GOhm; Technical Reference: X7R0805222K010DFCT10000; Capacitance: 2.2nF; Ceramic Type: X7R; ComponentLink1Description: Manufacturer Link; ComponentLink1URL: http://www.we-online.de; ComponentLink2Description: Datasheet; ComponentLink2URL: https://www.we-online.com/catalog/datasheet/885012207009.pdf; Height: 0.8mm; Length: 2mm; Mounting Technology: SMT; Operating Temperature max.: 125C; Operating Temperature min.: -55C; Packaging: Tape and Reel; Rated Voltage: 10V; Size: 0805; Width: 1.25mm
footprint WCAP-CSGP_0805_L2W1.25H0.8_Wave
footprint WCAP-CSGP_0805_L2W1.25H0.8_Reflow
pins: 1, 2

## 885012207010
designator C?, comment 3.3nF, 10V
WCAP-CSGP Multilayer Ceramic Chip Capacitor, General Purpose, size 0805, X7R, 3.3nF, 10V; Manufacturer: Wurth Elektronik; Manufacturer Part Number: 885012207010; Capacitance Tolerance: +/-10%; Dissipation Factor: 5%; Isolation Resistance: 10GOhm; Technical Reference: X7R0805332K010DFCT10000; Capacitance: 3.3nF; Ceramic Type: X7R; ComponentLink1Description: Manufacturer Link; ComponentLink1URL: http://www.we-online.de; ComponentLink2Description: Datasheet; ComponentLink2URL: https://www.we-online.com/catalog/datasheet/885012207010.pdf; Height: 0.8mm; Length: 2mm; Mounting Technology: SMT; Operating Temperature max.: 125C; Operating Temperature min.: -55C; Packaging: Tape and Reel; Rated Voltage: 10V; Size: 0805; Width: 1.25mm
footprint WCAP-CSGP_0805_L2W1.25H0.8_Wave
footprint WCAP-CSGP_0805_L2W1.25H0.8_Reflow
pins: 1, 2

## 885012207011
designator C?, comment 10nF, 10V
WCAP-CSGP Multilayer Ceramic Chip Capacitor, General Purpose, size 0805, X7R, 10nF, 10V; Manufacturer: Wurth Elektronik; Manufacturer Part Number: 885012207011; Capacitance Tolerance: +/-10%; Dissipation Factor: 5%; Isolation Resistance: 10GOhm; Technical Reference: X7R0805103K010DFCT10000; Capacitance: 10nF; Ceramic Type: X7R; ComponentLink1Description: Manufacturer Link; ComponentLink1URL: http://www.we-online.de; ComponentLink2Description: Datasheet; ComponentLink2URL: https://www.we-online.com/catalog/datasheet/885012207011.pdf; Height: 0.8mm; Length: 2mm; Mounting Technology: SMT; Operating Temperature max.: 125C; Operating Temperature min.: -55C; Packaging: Tape and Reel; Rated Voltage: 10V; Size: 0805; Width: 1.25mm
footprint WCAP-CSGP_0805_L2W1.25H0.8_Wave
footprint WCAP-CSGP_0805_L2W1.25H0.8_Reflow
pins: 1, 2

## 885012207012
designator C?, comment 15nF, 10V
WCAP-CSGP Multilayer Ceramic Chip Capacitor, General Purpose, size 0805, X7R, 15nF, 10V; Manufacturer: Wurth Elektronik; Manufacturer Part Number: 885012207012; Capacitance Tolerance: +/-10%; Dissipation Factor: 5%; Isolation Resistance: 10GOhm; Technical Reference: X7R0805153K010DFCT10000; Capacitance: 15nF; Ceramic Type: X7R; ComponentLink1Description: Manufacturer Link; ComponentLink1URL: http://www.we-online.de; ComponentLink2Description: Datasheet; ComponentLink2URL: https://www.we-online.com/catalog/datasheet/885012207012.pdf; Height: 0.8mm; Length: 2mm; Mounting Technology: SMT; Operating Temperature max.: 125C; Operating Temperature min.: -55C; Packaging: Tape and Reel; Rated Voltage: 10V; Size: 0805; Width: 1.25mm
footprint WCAP-CSGP_0805_L2W1.25H0.8_Wave
footprint WCAP-CSGP_0805_L2W1.25H0.8_Reflow
pins: 1, 2

## 885012207013
designator C?, comment 22nF, 10V
WCAP-CSGP Multilayer Ceramic Chip Capacitor, General Purpose, size 0805, X7R, 22nF, 10V; Manufacturer: Wurth Elektronik; Manufacturer Part Number: 885012207013; Capacitance Tolerance: +/-10%; Dissipation Factor: 5%; Isolation Resistance: 10GOhm; Technical Reference: X7R0805223K010DFCT10000; Capacitance: 22nF; Ceramic Type: X7R; ComponentLink1Description: Manufacturer Link; ComponentLink1URL: http://www.we-online.de; ComponentLink2Description: Datasheet; ComponentLink2URL: https://www.we-online.com/catalog/datasheet/885012207013.pdf; Height: 0.8mm; Length: 2mm; Mounting Technology: SMT; Operating Temperature max.: 125C; Operating Temperature min.: -55C; Packaging: Tape and Reel; Rated Voltage: 10V; Size: 0805; Width: 1.25mm
footprint WCAP-CSGP_0805_L2W1.25H0.8_Wave
footprint WCAP-CSGP_0805_L2W1.25H0.8_Reflow
pins: 1, 2

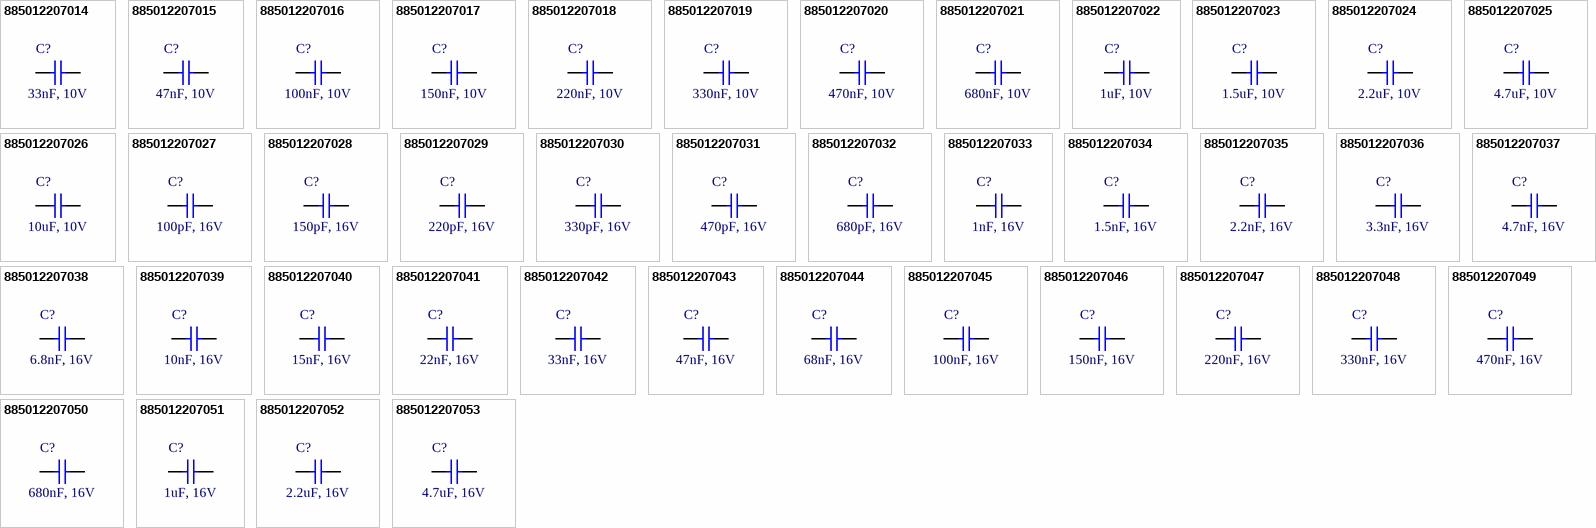
[diagram p14: symbols 885012207014 to 885012207053]

## 885012207014
designator C?, comment 33nF, 10V
WCAP-CSGP Multilayer Ceramic Chip Capacitor, General Purpose, size 0805, X7R, 33nF, 10V; Manufacturer: Wurth Elektronik; Manufacturer Part Number: 885012207014; Capacitance Tolerance: +/-10%; Dissipation Factor: 5%; Isolation Resistance: 10GOhm; Technical Reference: X7R0805333K010DFCT10000; Capacitance: 33nF; Ceramic Type: X7R; ComponentLink1Description: Manufacturer Link; ComponentLink1URL: http://www.we-online.de; ComponentLink2Description: Datasheet; ComponentLink2URL: https://www.we-online.com/catalog/datasheet/885012207014.pdf; Height: 0.8mm; Length: 2mm; Mounting Technology: SMT; Operating Temperature max.: 125C; Operating Temperature min.: -55C; Packaging: Tape and Reel; Rated Voltage: 10V; Size: 0805; Width: 1.25mm
footprint WCAP-CSGP_0805_L2W1.25H0.8_Wave
footprint WCAP-CSGP_0805_L2W1.25H0.8_Reflow
pins: 1, 2

## 885012207015
designator C?, comment 47nF, 10V
WCAP-CSGP Multilayer Ceramic Chip Capacitor, General Purpose, size 0805, X7R, 47nF, 10V; Manufacturer: Wurth Elektronik; Manufacturer Part Number: 885012207015; Capacitance Tolerance: +/-10%; Dissipation Factor: 5%; Isolation Resistance: 10GOhm; Technical Reference: X7R0805473K010DFCT10000; Capacitance: 47nF; Ceramic Type: X7R; ComponentLink1Description: Manufacturer Link; ComponentLink1URL: http://www.we-online.de; ComponentLink2Description: Datasheet; ComponentLink2URL: https://www.we-online.com/catalog/datasheet/885012207015.pdf; Height: 0.8mm; Length: 2mm; Mounting Technology: SMT; Operating Temperature max.: 125C; Operating Temperature min.: -55C; Packaging: Tape and Reel; Rated Voltage: 10V; Size: 0805; Width: 1.25mm
footprint WCAP-CSGP_0805_L2W1.25H0.8_Wave
footprint WCAP-CSGP_0805_L2W1.25H0.8_Reflow
pins: 1, 2

## 885012207016
designator C?, comment 100nF, 10V
WCAP-CSGP Multilayer Ceramic Chip Capacitor, General Purpose, size 0805, X7R, 100nF, 10V; Manufacturer: Wurth Elektronik; Manufacturer Part Number: 885012207016; Capacitance Tolerance: +/-10%; Dissipation Factor: 5%; Isolation Resistance: 5GOhm; Technical Reference: X7R0805104K010DFCT10000; Capacitance: 100nF; Ceramic Type: X7R; ComponentLink1Description: Manufacturer Link; ComponentLink1URL: http://www.we-online.de; ComponentLink2Description: Datasheet; ComponentLink2URL: https://www.we-online.com/catalog/datasheet/885012207016.pdf; Height: 0.8mm; Length: 2mm; Mounting Technology: SMT; Operating Temperature max.: 125C; Operating Temperature min.: -55C; Packaging: Tape and Reel; Rated Voltage: 10V; Size: 0805; Width: 1.25mm
footprint WCAP-CSGP_0805_L2W1.25H0.8_Wave
footprint WCAP-CSGP_0805_L2W1.25H0.8_Reflow
pins: 1, 2

## 885012207017
designator C?, comment 150nF, 10V
WCAP-CSGP Multilayer Ceramic Chip Capacitor, General Purpose, size 0805, X7R, 150nF, 10V; Manufacturer: Wurth Elektronik; Manufacturer Part Number: 885012207017; Capacitance Tolerance: +/-10%; Dissipation Factor: 5%; Isolation Resistance: 3.3GOhm; Technical Reference: X7R0805154K010DFCT10000; Capacitance: 150nF; Ceramic Type: X7R; ComponentLink1Description: Manufacturer Link; ComponentLink1URL: http://www.we-online.de; ComponentLink2Description: Datasheet; ComponentLink2URL: https://www.we-online.com/catalog/datasheet/885012207017.pdf; Height: 1.25mm; Length: 2mm; Mounting Technology: SMT; Operating Temperature max.: 125C; Operating Temperature min.: -55C; Packaging: Tape and Reel; Rated Voltage: 10V; Size: 0805; Width: 1.25mm
footprint WCAP-CSGP_0805_L2W1.25H1.25
pins: 1, 2

## 885012207018
designator C?, comment 220nF, 10V
WCAP-CSGP Multilayer Ceramic Chip Capacitor, General Purpose, size 0805, X7R, 220nF, 10V; Manufacturer: Wurth Elektronik; Manufacturer Part Number: 885012207018; Capacitance Tolerance: +/-10%; Dissipation Factor: 5%; Isolation Resistance: 2.3GOhm; Technical Reference: X7R0805224K010DFCT10000; Capacitance: 220nF; Ceramic Type: X7R; ComponentLink1Description: Manufacturer Link; ComponentLink1URL: http://www.we-online.de; ComponentLink2Description: Datasheet; ComponentLink2URL: https://www.we-online.com/catalog/datasheet/885012207018.pdf; Height: 1.25mm; Length: 2mm; Mounting Technology: SMT; Operating Temperature max.: 125C; Operating Temperature min.: -55C; Packaging: Tape and Reel; Rated Voltage: 10V; Size: 0805; Width: 1.25mm
footprint WCAP-CSGP_0805_L2W1.25H1.25
pins: 1, 2

## 885012207019
designator C?, comment 330nF, 10V
WCAP-CSGP Multilayer Ceramic Chip Capacitor, General Purpose, size 0805, X7R, 330nF, 10V; Manufacturer: Wurth Elektronik; Manufacturer Part Number: 885012207019; Capacitance Tolerance: +/-10%; Dissipation Factor: 5%; Isolation Resistance: 1.5GOhm; Technical Reference: X7R0805334K010DFCT10000; Capacitance: 330nF; Ceramic Type: X7R; ComponentLink1Description: Manufacturer Link; ComponentLink1URL: http://www.we-online.de; ComponentLink2Description: Datasheet; ComponentLink2URL: https://www.we-online.com/catalog/datasheet/885012207019.pdf; Height: 1.25mm; Length: 2mm; Mounting Technology: SMT; Operating Temperature max.: 125C; Operating Temperature min.: -55C; Packaging: Tape and Reel; Rated Voltage: 10V; Size: 0805; Width: 1.25mm
footprint WCAP-CSGP_0805_L2W1.25H1.25
pins: 1, 2

## 885012207020
designator C?, comment 470nF, 10V
WCAP-CSGP Multilayer Ceramic Chip Capacitor, General Purpose, size 0805, X7R, 470nF, 10V; Manufacturer: Wurth Elektronik; Manufacturer Part Number: 885012207020; Capacitance Tolerance: +/-10%; Dissipation Factor: 5%; Isolation Resistance: 1.1GOhm; Technical Reference: X7R0805474K010DFCT10000; Capacitance: 470nF; Ceramic Type: X7R; ComponentLink1Description: Manufacturer Link; ComponentLink1URL: http://www.we-online.de; ComponentLink2Description: Datasheet; ComponentLink2URL: https://www.we-online.com/catalog/datasheet/885012207020.pdf; Height: 1.25mm; Length: 2mm; Mounting Technology: SMT; Operating Temperature max.: 125C; Operating Temperature min.: -55C; Packaging: Tape and Reel; Rated Voltage: 10V; Size: 0805; Width: 1.25mm
footprint WCAP-CSGP_0805_L2W1.25H1.25
pins: 1, 2

## 885012207021
designator C?, comment 680nF, 10V
WCAP-CSGP Multilayer Ceramic Chip Capacitor, General Purpose, size 0805, X7R, 680nF, 10V; Manufacturer: Wurth Elektronik; Manufacturer Part Number: 885012207021; Capacitance Tolerance: +/-10%; Dissipation Factor: 5%; Isolation Resistance: 0.7GOhm; Technical Reference: X7R0805684K010DFCT10000; Capacitance: 680nF; Ceramic Type: X7R; ComponentLink1Description: Manufacturer Link; ComponentLink1URL: http://www.we-online.de; ComponentLink2Description: Datasheet; ComponentLink2URL: https://www.we-online.com/catalog/datasheet/885012207021.pdf; Height: 1.25mm; Length: 2mm; Mounting Technology: SMT; Operating Temperature max.: 125C; Operating Temperature min.: -55C; Packaging: Tape and Reel; Rated Voltage: 10V; Size: 0805; Width: 1.25mm
footprint WCAP-CSGP_0805_L2W1.25H1.25
pins: 1, 2

## 885012207022
designator C?, comment 1uF, 10V
WCAP-CSGP Multilayer Ceramic Chip Capacitor, General Purpose, size 0805, X7R, 1uF, 10V; Manufacturer: Wurth Elektronik; Manufacturer Part Number: 885012207022; Capacitance Tolerance: +/-10%; Dissipation Factor: 5%; Isolation Resistance: 0.5GOhm; Technical Reference: X7R0805105K010DFCT10000; Capacitance: 1uF; Ceramic Type: X7R; ComponentLink1Description: Manufacturer Link; ComponentLink1URL: http://www.we-online.de; ComponentLink2Description: Datasheet; ComponentLink2URL: https://www.we-online.com/catalog/datasheet/885012207022.pdf; Height: 1.25mm; Length: 2mm; Mounting Technology: SMT; Operating Temperature max.: 125C; Operating Temperature min.: -55C; Packaging: Tape and Reel; Rated Voltage: 10V; Size: 0805; Width: 1.25mm
footprint WCAP-CSGP_0805_L2W1.25H1.25
pins: 1, 2

## 885012207023
designator C?, comment 1.5uF, 10V
WCAP-CSGP Multilayer Ceramic Chip Capacitor, General Purpose, size 0805, X7R, 1.5uF, 10V; Manufacturer: Wurth Elektronik; Manufacturer Part Number: 885012207023; Capacitance Tolerance: +/-10%; Dissipation Factor: 5%; Isolation Resistance: 0.3GOhm; Technical Reference: X7R0805155K010DFCT10000; Capacitance: 1.5uF; Ceramic Type: X7R; ComponentLink1Description: Manufacturer Link; ComponentLink1URL: http://www.we-online.de; ComponentLink2Description: Datasheet; ComponentLink2URL: https://www.we-online.com/catalog/datasheet/885012207023.pdf; Height: 1.25mm; Length: 2mm; Mounting Technology: SMT; Operating Temperature max.: 125C; Operating Temperature min.: -55C; Packaging: Tape and Reel; Rated Voltage: 10V; Size: 0805; Width: 1.25mm
footprint WCAP-CSGP_0805_L2W1.25H1.25
pins: 1, 2

## 885012207024
designator C?, comment 2.2uF, 10V
WCAP-CSGP Multilayer Ceramic Chip Capacitor, General Purpose, size 0805, X7R, 2.2uF, 10V; Manufacturer: Wurth Elektronik; Manufacturer Part Number: 885012207024; Capacitance Tolerance: +/-10%; Dissipation Factor: 10%; Isolation Resistance: 0.05GOhm; Technical Reference: X7R0805225K010DFCT10000; Capacitance: 2.2uF; Ceramic Type: X7R; ComponentLink1Description: Manufacturer Link; ComponentLink1URL: http://www.we-online.de; ComponentLink2Description: Datasheet; ComponentLink2URL: https://www.we-online.com/catalog/datasheet/885012207024.pdf; Height: 1.25mm; Length: 2mm; Mounting Technology: SMT; Operating Temperature max.: 125C; Operating Temperature min.: -55C; Packaging: Tape and Reel; Rated Voltage: 10V; Size: 0805; Width: 1.25mm
footprint WCAP-CSGP_0805_L2W1.25H1.25
pins: 1, 2

## 885012207025
designator C?, comment 4.7uF, 10V
WCAP-CSGP Multilayer Ceramic Chip Capacitor, General Purpose, size 0805, X7R, 4.7uF, 10V; Manufacturer: Wurth Elektronik; Manufacturer Part Number: 885012207025; Capacitance Tolerance: +/-10%; Dissipation Factor: 10%; Isolation Resistance: 0.02GOhm; Technical Reference: X7R0805475K010DFCT10000; Capacitance: 4.7uF; Ceramic Type: X7R; ComponentLink1Description: Manufacturer Link; ComponentLink1URL: http://www.we-online.de; ComponentLink2Description: Datasheet; ComponentLink2URL: https://www.we-online.com/catalog/datasheet/885012207025.pdf; Height: 1.25mm; Length: 2mm; Mounting Technology: SMT; Operating Temperature max.: 125C; Operating Temperature min.: -55C; Packaging: Tape and Reel; Rated Voltage: 10V; Size: 0805; Width: 1.25mm
footprint WCAP-CSGP_0805_L2W1.25H1.25
pins: 1, 2

## 885012207026
designator C?, comment 10uF, 10V
WCAP-CSGP Multilayer Ceramic Chip Capacitor, General Purpose, size 0805, X7R, 10uF, 10V; Manufacturer: Wurth Elektronik; Manufacturer Part Number: 885012207026; Capacitance Tolerance: +/-10%; Dissipation Factor: 10%; Isolation Resistance: 0.01GOhm; Technical Reference: X7R0805106K010DFCT10000; Capacitance: 10uF; Ceramic Type: X7R; ComponentLink1Description: Manufacturer Link; ComponentLink1URL: http://www.we-online.de; ComponentLink2Description: Datasheet; ComponentLink2URL: https://www.we-online.com/catalog/datasheet/885012207026.pdf; Height: 1.25mm; Length: 2mm; Mounting Technology: SMT; Operating Temperature max.: 125C; Operating Temperature min.: -55C; Packaging: Tape and Reel; Rated Voltage: 10V; Size: 0805; Width: 1.25mm
footprint WCAP-CSGP_0805_L2W1.25H1.25
pins: 1, 2

## 885012207027
designator C?, comment 100pF, 16V
WCAP-CSGP Multilayer Ceramic Chip Capacitor, General Purpose, size 0805, X7R, 100pF, 16V; Manufacturer: Wurth Elektronik; Manufacturer Part Number: 885012207027; Capacitance Tolerance: +/-10%; Dissipation Factor: 3.5%; Isolation Resistance: 10GOhm; Technical Reference: X7R0805101K016DFCT10000; Capacitance: 100pF; Ceramic Type: X7R; ComponentLink1Description: Manufacturer Link; ComponentLink1URL: http://www.we-online.de; ComponentLink2Description: Datasheet; ComponentLink2URL: https://www.we-online.com/catalog/datasheet/885012207027.pdf; Height: 0.8mm; Length: 2mm; Mounting Technology: SMT; Operating Temperature max.: 125C; Operating Temperature min.: -55C; Packaging: Tape and Reel; Rated Voltage: 16V; Size: 0805; Width: 1.25mm
footprint WCAP-CSGP_0805_L2W1.25H0.8_Wave
footprint WCAP-CSGP_0805_L2W1.25H0.8_Reflow
pins: 1, 2

## 885012207028
designator C?, comment 150pF, 16V
WCAP-CSGP Multilayer Ceramic Chip Capacitor, General Purpose, size 0805, X7R, 150pF, 16V; Manufacturer: Wurth Elektronik; Manufacturer Part Number: 885012207028; Capacitance Tolerance: +/-10%; Dissipation Factor: 3.5%; Isolation Resistance: 10GOhm; Technical Reference: X7R0805151K016DFCT10000; Capacitance: 150pF; Ceramic Type: X7R; ComponentLink1Description: Manufacturer Link; ComponentLink1URL: http://www.we-online.de; ComponentLink2Description: Datasheet; ComponentLink2URL: https://www.we-online.com/catalog/datasheet/885012207028.pdf; Height: 0.8mm; Length: 2mm; Mounting Technology: SMT; Operating Temperature max.: 125C; Operating Temperature min.: -55C; Packaging: Tape and Reel; Rated Voltage: 16V; Size: 0805; Width: 1.25mm
footprint WCAP-CSGP_0805_L2W1.25H0.8_Wave
footprint WCAP-CSGP_0805_L2W1.25H0.8_Reflow
pins: 1, 2